# EAGLE library part IC-74595 (library ic)
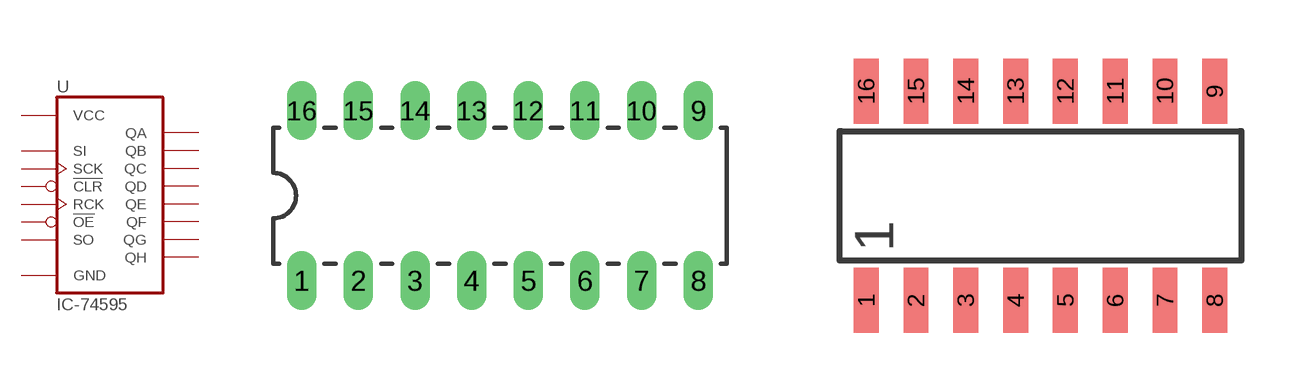
[diagram p10: symbol with the pads of IC-16-DIP-300; footprints IC-16-DIP-300, IC-16-SOIC-150]

Designator prefix U

## IC-74595-DIP  [IC-16-DIP-300]
1  QB  hiz
2  QC  hiz
3  QD  hiz
4  QE  hiz
5  QF  hiz
6  QG  hiz
7  QH  hiz
8  GND  pwr
9  SO  hiz
10  !CLR  in
11  SCK  in
12  RCK  in
13  !OE  in
14  SI  in
15  QA  hiz
16  VCC  pwr

## IC-74595-SOIC-150  [IC-16-SOIC-150]
Pads as for IC-16-DIP-300

## Footprint IC-16-DIP-300 (pad centres in mm)
DIP (Dual Inline Package), 16 pin, 300 mil width
drill 0.813 long: 1 -8.89,-3.81; 2 -6.35,-3.81; 3 -3.81,-3.81; 4 -1.27,-3.81; 5 1.27,-3.81; 6 3.81,-3.81; 7 6.35,-3.81; 8 8.89,-3.81; 9 8.89,3.81; 10 6.35,3.81; 11 3.81,3.81; 12 1.27,3.81; 13 -1.27,3.81; 14 -3.81,3.81; 15 -6.35,3.81; 16 -8.89,3.81

## Footprint IC-16-SOIC-150 (pad centres in mm)
smd 0.635 x 1.651: 1 -4.445,-2.667; 2 -3.175,-2.667; 3 -1.905,-2.667; 4 -0.635,-2.667; 5 0.635,-2.667; 6 1.905,-2.667; 7 3.175,-2.667; 8 4.445,-2.667; 9 4.445,2.667; 10 3.175,2.667; 11 1.905,2.667; 12 0.635,2.667; 13 -0.635,2.667; 14 -1.905,2.667; 15 -3.175,2.667; 16 -4.445,2.667